# Altium footprint library SO.PcbLib: 26 footprints (part 1 of 2)
Each footprint in its own frame and in the unit in brackets; x right, y up, seen from the top. Pads: shape width x height; smd on the part's side, far side on the other; paste and mask are expansions set on the pad; w line width, h text height; cw(c..) or ccw(c..) is an arc to the next point about the centre after c.
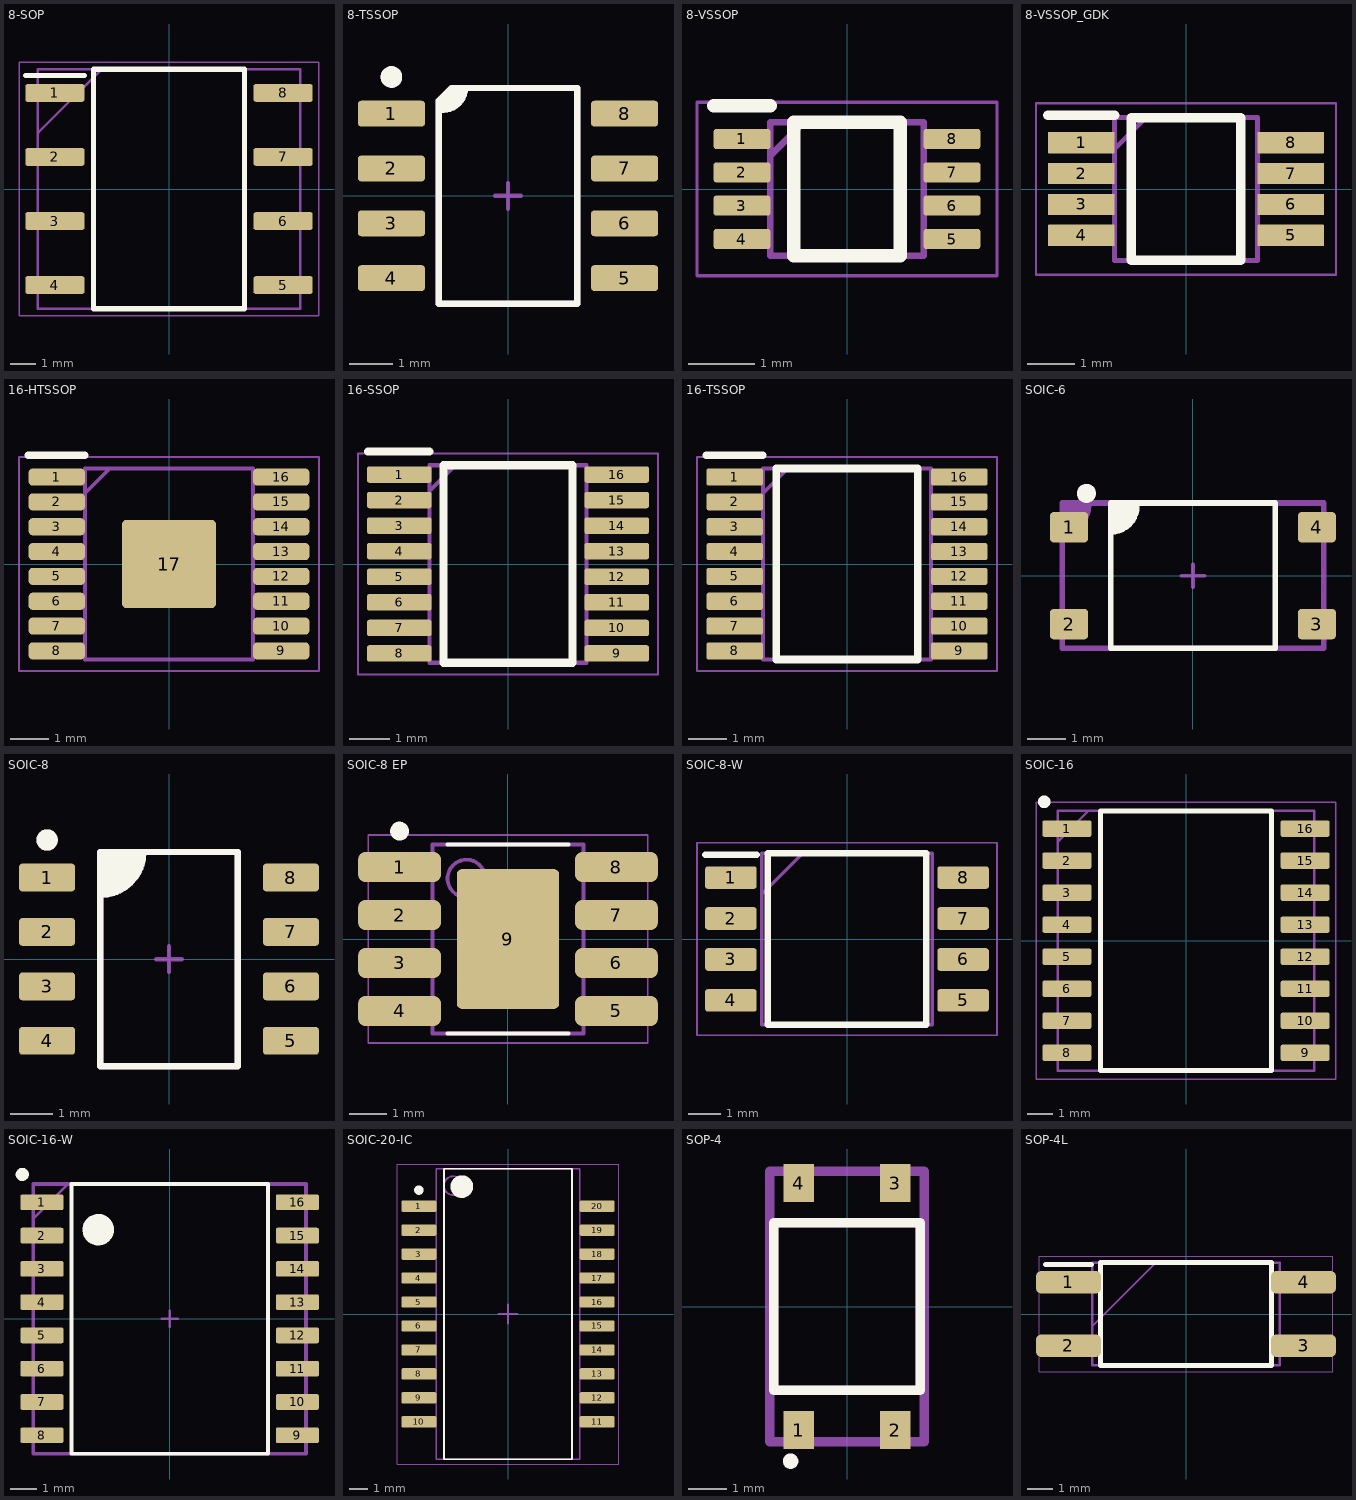
[diagram p0: the footprints below, top view; thin cyan lines are the x and y axes]

## 8-SOP [mm]
pads (8):
  rrect25% 2.35x0.7 smd: 1(-4.525,3.81) 2(-4.525,1.27) 3(-4.525,-1.27) 4(-4.525,-3.81) 5(4.525,-3.81) 6(4.525,-1.27) 7(4.525,1.27) 8(4.525,3.81)
Top Overlay:
  lines w0.2: -5.7,4.51 -3.35,4.51 ; -3,-4.75 3,-4.75 3,4.75 -3,4.75 -3,-4.75
Mechanical 15:
  lines w0.05: -5.95,-5.025 5.95,-5.025 5.95,5.025 -5.95,5.025 -5.95,-5.025
Mechanical 29:
  lines w0.1: -5.173,2.252 -2.696,4.729 ; -5.207,-4.75 5.207,-4.75 5.207,4.75 -5.207,4.75 -5.207,-4.75
  text "'.Designator'" at -2.457,-0.23 h1.02
3D body "ISO1050DUBR.stp": height 4.85, standoff 0, extent -5.2,-4.75 5.2,4.75

## 8-TSSOP [mm]
height 1.75
pads (8):
  rrect25% 1.55x0.6 smd: 1(-2.7,1.905) 2(-2.7,0.635) 3(-2.7,-0.635) 4(-2.7,-1.905) 5(2.7,-1.905) 6(2.7,-0.635) 7(2.7,0.635) 8(2.7,1.905)
Top Overlay:
  circle w0.25: c-2.7,2.755 r0.125
  region: -1.3,2.5 -1,2.5 -1,2.401 -1.076,2.217 -1.217,2.076 -1.401,2 -1.5,2 -1.6,2 -1.6,2.2
  lines w0.15: -1.6,2 -1.5,2 ccw(c-1.5,2.5) -1,2.5 ; -1.6,-2.5 1.6,-2.5 1.6,2.5 -1.3,2.5 -1.6,2.2 -1.6,-2.5
Mechanical 15:
  lines w0.1: -0.3,0 0.3,0 ; 0,-0.3 0,0.3
Mechanical 29:
  circle w0.25: c-2.7,2.755 r0.125
  region: -1.3,2.5 -1,2.5 -1,2.401 -1.076,2.217 -1.217,2.076 -1.401,2 -1.5,2 -1.6,2 -1.6,2.2
  lines w0.15: -1.6,2 -1.5,2 ccw(c-1.5,2.5) -1,2.5 ; -1.6,-2.5 -1.6,2.2 -1.3,2.5 1.6,2.5 1.6,-2.5 -1.6,-2.5
  text "'.Designator'" at -1.507,-0.143 h0.64
3D body "SO-8.STEP": height 1.5, standoff 0, extent -3.014,-2.45 3.014,2.45

## 8-VSSOP [mm]
pads (8):
  rrect25% 0.85x0.3 smd: 1(-1.575,0.75) 2(-1.575,0.25) 3(-1.575,-0.25) 4(-1.575,-0.75) 5(1.575,-0.75) 6(1.575,-0.25) 7(1.575,0.25) 8(1.575,0.75)
Top Overlay:
  lines w0.2: -2,1.25 -1.15,1.25 ; -0.8,-1 -0.8,1 0.8,1 0.8,-1 -0.8,-1
Mechanical 15:
  lines w0.05: -2.25,-1.3 -2.25,1.3 2.25,1.3 2.25,-1.3 -2.25,-1.3
Mechanical 29:
  lines w0.1: -1.15,0.5 -0.65,1 ; -1.15,-1 -1.15,1 1.15,1 1.15,-1 -1.15,-1
  text "'.Designator'" at -0.916,-0.086 h0.38
3D body "SN74LVC1G74DCUR.stp": height 0.9, standoff 0, extent -1.55,-1 1.55,1

## 8-VSSOP_GDK [mm]
pads (8):
  rrect10% 1.4x0.45 smd: 1(-2.2,0.975) 2(-2.2,0.325) 3(-2.2,-0.325) 4(-2.2,-0.975) 5(2.2,-0.975) 6(2.2,-0.325) 7(2.2,0.325) 8(2.2,0.975)
Top Overlay:
  lines w0.2: -2.9,1.55 -1.5,1.55 ; -1.15,-1.5 1.15,-1.5 1.15,1.5 -1.15,1.5 -1.15,-1.5
Mechanical 15:
  lines w0.05: -3.15,-1.8 3.15,-1.8 3.15,1.8 -3.15,1.8 -3.15,-1.8
Mechanical 29:
  lines w0.1: -1.5,0.85 -0.85,1.5 ; -1.5,-1.5 1.5,-1.5 1.5,1.5 -1.5,1.5 -1.5,-1.5
  text "'.Designator'" at -0.916,-0.086 h0.38
3D body "TLV2316QDGKTQ1.stp": height 1.1, standoff 0, extent -2.45,-1.5 2.45,1.5

## 16-HTSSOP [mm]
pads (17):
  rrect50% 1.475x0.45 smd: 1(-2.938,2.275) 2(-2.938,1.625) 3(-2.938,0.975) 4(-2.938,0.325) 5(-2.938,-0.325) 6(-2.938,-0.975) 7(-2.938,-1.625) 8(-2.938,-2.275) 9(2.938,-2.275) 10(2.938,-1.625) 11(2.938,-0.975) 12(2.938,-0.325) 13(2.938,0.325) 14(2.938,0.975) 15(2.938,1.625) 16(2.938,2.275)
  rrect10% 2.46x2.31 smd: 17(0,0)
Top Overlay:
  lines w0.2: -3.675,2.85 -2.2,2.85
Mechanical 15:
  lines w0.05: -3.925,-2.8 -3.925,2.8 3.925,2.8 3.925,-2.8 -3.925,-2.8
Mechanical 29:
  lines w0.1: -2.2,1.85 -1.55,2.5 ; -2.2,-2.5 2.2,-2.5 2.2,2.5 -2.2,2.5 -2.2,-2.5
  text "'.Designator'" at -2.417,-0.226 h1
3D body "DRV8876PWPT.stp": height 1.2, standoff 0, extent -3.2,-2.5 3.2,2.5

## 16-SSOP [mm]
pads (16):
  rrect25% 1.6x0.41 smd: 1(-2.7,2.222) 2(-2.7,1.588) 3(-2.7,0.952) 4(-2.7,0.318) 5(-2.7,-0.318) 6(-2.7,-0.952) 7(-2.7,-1.588) 8(-2.7,-2.222) 9(2.7,-2.222) 10(2.7,-1.588) 11(2.7,-0.952) 12(2.7,-0.318) 13(2.7,0.318) 14(2.7,0.952) 15(2.7,1.588) 16(2.7,2.222)
Top Overlay:
  lines w0.2: -3.475,2.79 -1.948,2.79 ; -1.598,-2.452 -1.598,2.452 1.598,2.452 1.598,-2.452 -1.598,-2.452
Mechanical 15:
  lines w0.05: -3.725,-2.75 -3.725,2.75 3.725,2.75 3.725,-2.75 -3.725,-2.75
Mechanical 29:
  lines w0.1: -1.948,1.818 -1.312,2.452 ; -1.948,-2.452 -1.948,2.452 1.948,2.452 1.948,-2.452 -1.948,-2.452
  text "'.Designator'" at -1.507,-0.143 h0.64
3D body "ISO1500DBQ.stp": height 1.75, standoff 0, extent -2.997,-2.452 2.998,2.453

## 16-TSSOP [mm]
pads (16):
  rrect25% 1.475x0.45 smd: 1(-2.938,2.275) 2(-2.938,1.625) 3(-2.938,0.975) 4(-2.938,0.325) 5(-2.938,-0.325) 6(-2.938,-0.975) 7(-2.938,-1.625) 8(-2.938,-2.275) 9(2.938,-2.275) 10(2.938,-1.625) 11(2.938,-0.975) 12(2.938,-0.325) 13(2.938,0.325) 14(2.938,0.975) 15(2.938,1.625) 16(2.938,2.275)
Top Overlay:
  lines w0.2: -3.675,2.85 -2.2,2.85 ; -1.85,-2.5 -1.85,2.5 1.85,2.5 1.85,-2.5 -1.85,-2.5
Mechanical 15:
  lines w0.05: -3.925,-2.8 -3.925,2.8 3.925,2.8 3.925,-2.8 -3.925,-2.8
Mechanical 29:
  lines w0.1: -2.2,1.85 -1.55,2.5 ; -2.2,-2.5 -2.2,2.5 2.2,2.5 2.2,-2.5 -2.2,-2.5
  text "'.Designator'" at -1.507,-0.143 h0.64
3D body "MAX3221IPWR.stp": height 1.2, standoff 0, extent -3.2,-2.5 3.2,2.5

## SOIC-6 [mm] "SOIC-6, 4 Lead"
pads (4):
  rrect25% 1x0.8 smd: 1(-3.25,1.27) 2(-3.25,-1.27) 3(3.25,-1.27) 4(3.25,1.27)
Top Overlay:
  circle w0.25: c-2.794,2.159 r0.125
  region: -2.159,1.905 -1.472,1.905 -1.472,1.524 -1.853,1.143 -2.159,1.143
  lines w0.15: -2.159,1.143 ccw(c-2.159,1.83) -1.472,1.83 ; -2.159,-1.905 2.159,-1.905 2.159,1.905 -2.159,1.905 -2.159,-1.905
Mechanical 15:
  lines w0.1: -0.3,0 0.3,0 ; 0,-0.3 0,0.3
Mechanical 29:
  region: -3.429,1.905 -2.742,1.905 -2.742,1.524 -3.123,1.143 -3.429,1.143
  lines w0.15: -3.429,1.143 ccw(c-3.429,1.83) -2.742,1.83 ; -3.429,-1.905 -3.429,1.905 3.429,1.905 3.429,-1.905 -3.429,-1.905
  text "'.Designator'" at -2.457,-0.317 h1.02
3D body "LTV-357T.STEP": height 2.1, standoff 0, extent -3.514,-1.925 3.514,1.925

## SOIC-8 [mm]
pads (8):
  rrect25% 1.31x0.65 smd: 1(-2.845,1.905) 2(-2.845,0.635) 3(-2.845,-0.635) 4(-2.845,-1.905) 5(2.845,-1.905) 6(2.845,-0.635) 7(2.845,0.635) 8(2.845,1.905)
Top Overlay:
  circle w0.25: c-2.845,2.78 r0.125
  region: -1.6,2.5 -0.6,2.5 -0.6,2.1 -1.2,1.5 -1.6,1.5
  lines w0.15: -1.6,1.5 ccw(c-1.6,2.5) -0.6,2.5 ; -1.6,-2.5 -1.6,2.5 1.6,2.5 1.6,-2.5 -1.6,-2.5
Mechanical 15:
  lines w0.1: -0.3,0 0.3,0 ; 0,-0.3 0,0.3
Mechanical 29:
  circle w0.25: c-2.845,2.78 r0.125
  region: -1.6,2.5 -0.6,2.5 -0.6,2.1 -1.2,1.5 -1.6,1.5
  lines w0.15: -1.6,1.5 ccw(c-1.6,2.5) -0.6,2.5 ; -1.6,-2.5 1.6,-2.5 1.6,2.5 -1.6,2.5 -1.6,-2.5
  text "'.Designator'" at 0.238,-1.84 h0.76
3D body "Infineon PG-DSO-8.STEP": height 1.8, standoff 0.01, extent -3.036,-2.45 3.036,2.45

## SOIC-8 EP [mm] "SOIC, 8-Leads, Body 4.90x3.90mm, Pitch 1.27mm, Thermal Pad 3.70x2.71mm, IPC Medium Density"
height 1.7
pads (9):
  rrect50% 2.2x0.8 smd: 1(-2.87,1.905) 2(-2.87,0.635) 3(-2.87,-0.635) 4(-2.87,-1.905) 5(2.87,-1.905) 6(2.87,-0.635) 7(2.87,0.635) 8(2.87,1.905)
  rrect10% 2.71x3.7 smd: 9(0,0)
Top Overlay:
  circle w0.25: c-2.87,2.855 r0.125
  lines w0.1: -1.6,-2.5 1.6,-2.5 ; -1.6,2.5 1.6,2.5
Mechanical 15:
  lines w0.05: -3.7,-2.75 3.7,-2.75 3.7,2.75 -3.7,2.75 -3.7,-2.75
  lines w0.1: -0.5,0 0.5,0 ; 0,-0.5 0,0.5
Mechanical 29:
  circle w0.1: c-1.1,1.6 r0.5
  lines w0.1: -2,-2.5 -2,2.5 2,2.5 2,-2.5 -2,-2.5
  text "'.Designator'" at -1.84,-0.172 h0.76
3D body "SOIC127P600X170_HS-9N.step": height 1.7, standoff 0, extent -3,-2.5 3,2.5

## SOIC-8-W [mm]
pads (8):
  rrect25% 1.6x0.7 smd: 1(-3.6,1.905) 2(-3.6,0.635) 3(-3.6,-0.635) 4(-3.6,-1.905) 5(3.6,-1.905) 6(3.6,-0.635) 7(3.6,0.635) 8(3.6,1.905)
Top Overlay:
  lines w0.2: -4.4,2.605 -2.8,2.605 ; -2.45,-2.655 2.45,-2.655 2.45,2.655 -2.45,2.655 -2.45,-2.655
Mechanical 15:
  lines w0.05: -4.65,-2.98 4.65,-2.98 4.65,2.98 -4.65,2.98 -4.65,-2.98
Mechanical 29:
  lines w0.1: -2.642,1.385 -1.372,2.655 ; -2.642,-2.655 2.642,-2.655 2.642,2.655 -2.642,2.655 -2.642,-2.655
  text "'.Designator'" at -1.84,-0.172 h0.76
3D body "21-0262_MXM.step": height 2.15, standoff 0.01, extent -4.039,-2.73 4.039,2.73

## SOIC-16 [mm]
pads (16):
  rrect25% 1.95x0.65 smd: 1(-4.725,4.445) 2(-4.725,3.175) 3(-4.725,1.905) 4(-4.725,0.635) 5(-4.725,-0.635) 6(-4.725,-1.905) 7(-4.725,-3.175) 8(-4.725,-4.445) 9(4.725,-4.445) 10(4.725,-3.175) 11(4.725,-1.905) 12(4.725,-0.635) 13(4.725,0.635) 14(4.725,1.905) 15(4.725,3.175) 16(4.725,4.445)
Top Overlay:
  circle w0.25: c-5.625,5.51 r0.125
  lines w0.2: -3.4,-5.15 3.4,-5.15 3.4,5.15 -3.4,5.15 -3.4,-5.15
Mechanical 15:
  lines w0.05: -5.95,-5.5 5.95,-5.5 5.95,5.5 -5.95,5.5 -5.95,-5.5
Mechanical 29:
  lines w0.1: -5.085,3.942 -3.877,5.15 ; -5.08,-5.15 5.08,-5.15 5.08,5.15 -5.08,5.15 -5.08,-5.15
  text "'.Designator'" at -3.068,-0.397 h1.27
3D body "ISO1050DWR.stp": height 2.65, standoff 0, extent -5.15,-5.15 5.15,5.15

## SOIC-16-W [mm]
pads (16):
  rrect25% 1.65x0.6 smd mask+0.05: 1(-4.875,4.445) 2(-4.875,3.175) 3(-4.875,1.905) 4(-4.875,0.635) 5(-4.875,-0.635) 6(-4.875,-1.905) 7(-4.875,-3.175) 8(-4.875,-4.445) 9(4.875,-4.445) 10(4.875,-3.175) 11(4.875,-1.905) 12(4.875,-0.635) 13(4.875,0.635) 14(4.875,1.905) 15(4.875,3.175) 16(4.875,4.445)
Top Overlay:
  circle w0.25: c-5.625,5.51 r0.125
  circle w0.6: c-2.725,3.4 r0.3
  lines w0.15: -3.75,-5.15 -3.75,5.15 3.75,5.15 3.75,-5.15 -3.75,-5.15
Mechanical 15:
  lines w0.1: -0.3,0 0.3,0 ; 0,-0.3 0,0.3
Mechanical 29:
  lines w0.1: -5.212,3.815 -3.877,5.15
  lines w0.15: -5.207,-5.15 5.207,-5.15 5.207,5.15 -5.207,5.15 -5.207,-5.15
  text "'.Designator'" at -3.068,-0.397 h1.27
3D body "SOIC-16 SiLabs Wide.STEP": height 2.66, standoff 0.01, extent -5.164,-5.15 5.164,5.15

## SOIC-20-IC [mm] "SOIC, 20-Leads, Body 15.30x7.50mm, Pitch 1.27mm, IPC Medium Density"
height 2.64
pads (20):
  rrect25% 1.85x0.6 smd: 1(-4.725,5.715) 2(-4.725,4.445) 3(-4.725,3.175) 4(-4.725,1.905) 5(-4.725,0.635) 6(-4.725,-0.635) 7(-4.725,-1.905) 8(-4.725,-3.175) 9(-4.725,-4.445) 10(-4.725,-5.715) 11(4.725,-5.715) 12(4.725,-4.445) 13(4.725,-3.175) 14(4.725,-1.905) 15(4.725,-0.635) 16(4.725,0.635) 17(4.725,1.905) 18(4.725,3.175) 19(4.725,4.445) 20(4.725,5.715)
Top Overlay:
  circle w0.6: c-2.45,6.75 r0.3
  circle w0.25: c-4.725,6.565 r0.125
  lines w0.1: -3.4,-7.7 3.4,-7.7 3.4,7.7 -3.4,7.7 -3.4,-7.7
Mechanical 15:
  lines w0.05: -5.875,-7.95 5.875,-7.95 5.875,7.95 -5.875,7.95 -5.875,-7.95
  lines w0.1: -0.5,0 0.5,0 ; 0,-0.5 0,0.5
Mechanical 29:
  circle w0.1: c-2.9,6.8 r0.5
  lines w0.1: -3.8,-7.7 3.8,-7.7 3.8,7.7 -3.8,7.7 -3.8,-7.7
  text "'.Designator'" at -2.457,-0.23 h1.02
3D body "SOIC127P1030X264-20N.step": height 2.64, standoff 0, extent -5.155,-7.7 5.155,7.7

## SOP-4 [mm]
pads (4):
  rect 0.8x1 smd: 1(-1.27,-3.25) 2(1.27,-3.25) 3(1.27,3.25) 4(-1.27,3.25)
Top Overlay:
  circle w0.254: c-1.484,-4.068 r0.075
  lines w0.254: -1.925,-2.2 1.925,-2.2 1.925,2.2 -1.925,2.2 -1.925,-2.2
Mechanical 13:
  lines w0.254: -1.925,-2.2 1.925,-2.2 1.925,2.2 -1.925,2.2 -1.925,-2.2
Mechanical 29:
  lines w0.254: -2.032,-3.556 2.032,-3.556 2.032,3.556 -2.032,3.556 -2.032,-3.556
  text "'.Designator'" at 0.23,-2.457 h1.02
3D body "LTV-357T_LTO.step": height 2.4, standoff 0.01, extent -2.07,-3.594 2.07,3.594

## SOP-4L [mm]
pads (4):
  rrect50% 2.6x0.9 smd: 1(-4.7,1.27) 2(-4.7,-1.27) 3(4.7,-1.27) 4(4.7,1.27)
Top Overlay:
  lines w0.2: -5.625,1.97 -3.775,1.97 ; -3.425,-2.05 -3.425,2.05 3.425,2.05 3.425,-2.05 -3.425,-2.05
Mechanical 15:
  lines w0.05: -5.875,-2.3 -5.875,2.3 5.875,2.3 5.875,-2.3 -5.875,-2.3
Mechanical 29:
  lines w0.1: -3.75,-0.49 -1.21,2.05 ; -3.75,-2.05 -3.75,2.05 3.75,2.05 3.75,-2.05 -3.75,-2.05
  text "'.Designator'" at -3.068,-0.397 h1.27
3D body "SOP-4L_TC.step": height 2.31, standoff 0, extent -5.245,-2.045 5.245,2.045